# EAGLE library part OPAMP-DUAL (library custom-devices)
Dual Operational Amplifier
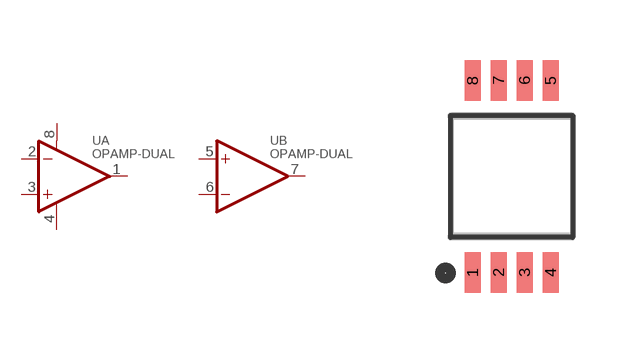
[diagram p11: symbol with the pads of MSOP08; footprint MSOP08]

Designator prefix U; gates A=OP-AMP+- B=OP-AMP

## OPAMP-DUAL_MSOP8 (DIGI-KEY: LTC6081IMS8#PBF-ND)  [MSOP08]
1  A:OUT  out
2  A:-IN  in
3  A:+IN  in
4  A:V-  pwr
5  B:+IN  in
6  B:-IN  in
7  B:OUT  out
8  A:V+  pwr

## Footprint MSOP08 (pad centres in mm)
smd 0.4 x 1.02: 1 -0.975,-2.4; 2 -0.325,-2.4; 3 0.325,-2.4; 4 0.975,-2.4; 5 0.975,2.4; 6 0.325,2.4; 7 -0.325,2.4; 8 -0.975,2.4